# Altium schematic symbol library DS1302.Schlib: 1 symbol
Pins are listed as number, name and electrical type; pins without a type are passive.

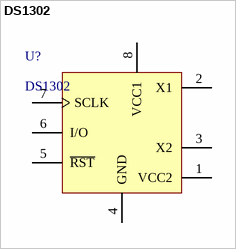
[diagram p0: symbol DS1302]

## DS1302
designator U?
IC TIMEKEEPER W/CHARGER 8-SOIC
pins: 1 VCC2 (power), 2 X1, 3 X2, 4 GND (power), 5 ~{RST}, 6 I/O, 7 SCLK, 8 VCC1 (power)